# Altium schematic symbol library SNP411-9.Schlib: 1 symbol
Pins are listed as number, name and electrical type; pins without a type are passive.

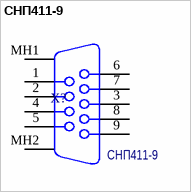
[diagram p0: symbol СНП411-9]

## СНП411-9
designator X?, comment Наименование: СНП411-9  (hidden comment: SNP411-9)
СНП411-9, распиновка со стороны платы; Назначение: Соединитель угловой на плату; Потребление, Вт: 0
footprint SNP411-9
pins: 1, 2, 3, 4, 5, 6, 7, 8, 9, MH1, MH2